# Altium schematic symbol library Button.SchLib: 1 symbol
Pins are listed as number, name and electrical type; pins without a type are passive.

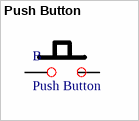
[diagram p0: symbol Push Button]

## Push Button
designator B  value Push Button  (hidden comment: *)
Push Button
pins: 1, 2